# Altium footprint library 常用元件封装.PCBLIB: 164 footprints (part 8 of 11)
Each footprint in its own frame and in the unit in brackets; x right, y up, seen from the top. Pads: shape width x height; smd on the part's side, far side on the other; paste and mask are expansions set on the pad; w line width, h text height; cw(c..) or ccw(c..) is an arc to the next point about the centre after c.
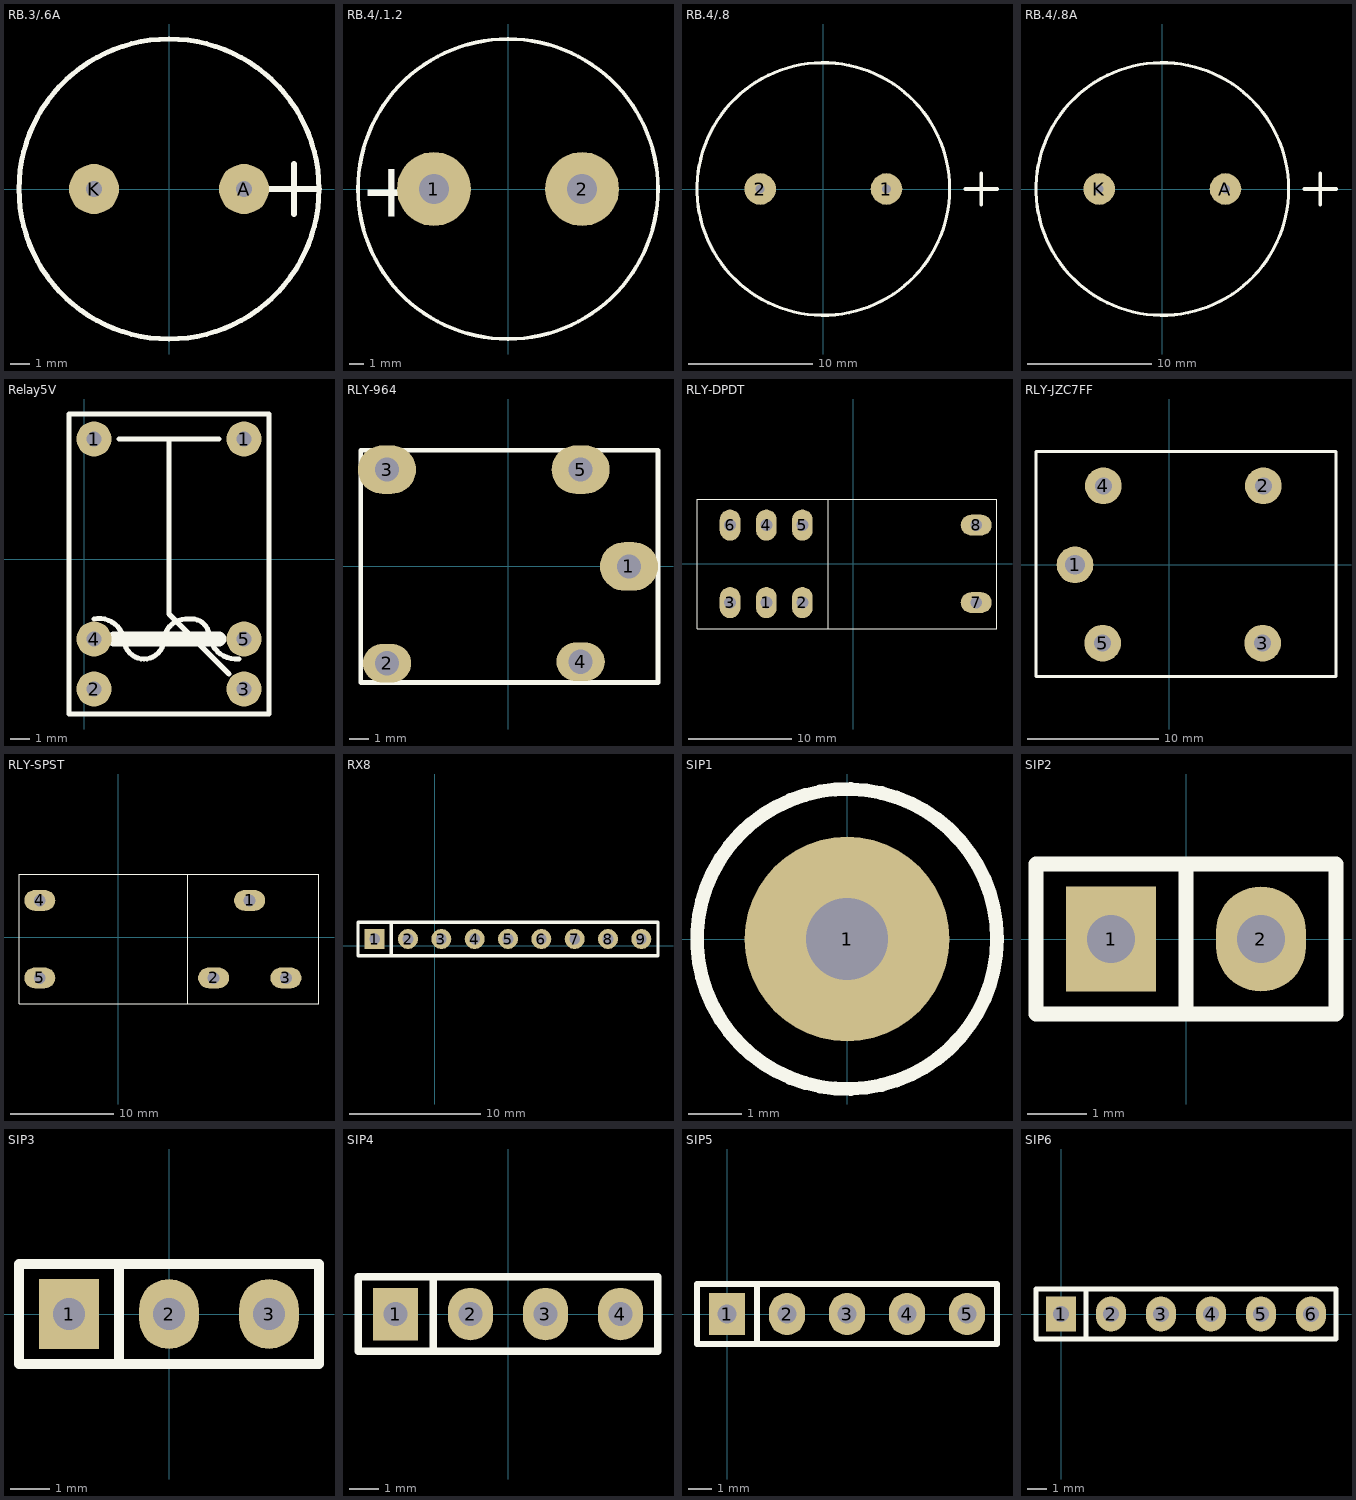
[diagram p7: the footprints below, top view; thin cyan lines are the x and y axes]

## RB.3/.6A [mil]
pads (2):
  round 100 hole 32: A(150,0) K(-150,0)
TopOverlay:
  circle w10: c0,0 r300
  lines w12: 200,0 300,0 ; 250,-50 250,50

## RB.4/.1.2 [mil]
pads (2):
  round 200 hole 80: 1(-200,0) 2(200,0)
TopOverlay:
  circle w10: c0,0 r405.25
  text "+" at -400,-75 h150

## RB.4/.8 [mil]
pads (2):
  round 100 hole 28: 1(200,0) 2(-200,0)
TopOverlay:
  circle w10: c0,0 r400
  lines w12: 450,0 550,0 ; 500,-50 500,50

## RB.4/.8A [mil]
pads (2):
  round 100 hole 28: A(200,0) K(-200,0)
TopOverlay:
  circle w10: c0,0 r400
  lines w12: 450,0 550,0 ; 500,-50 500,50

## Relay5V [mil]
pads (6):
  round 70 hole 30: 1(20,240) 1(320,240) 2(20,-260) 3(320,-260) 4(20,-160) 5(320,-160)
TopOverlay:
  lines w10: 20,-120 cw(c30,-170) 80,-160 ccw(c120,-160) 120,-200 ccw(c120,-160) 160,-160 cw(c205,-165) 210,-120 cw(c215,-155) 250,-150 ccw(c305,-145) 310,-200 ; 70,240 270,240 ; 170,240 170,-110 290,-230 ; -30,-310 370,-310 370,290 -30,290 -30,-310
  lines w30: 60,-160 270,-160

## RLY-964 [mil]
pads (5):
  oval 120x100 hole 50: 1(250,0) 3(-250,200) 5(150,200)
  oval 100x80 hole 50: 2(-250,-200) 4(150,-196.85)
TopOverlay:
  lines w10: -304.17,-240 310,-240 310,0 310,240 -304.17,240 -304.17,-240

## RLY-DPDT [mil]
pads (8):
  oval 79x118 hole 45: 1(-330.5,-147.5) 2(-193.5,-147.5) 3(-468.5,-147.5) 4(-330.5,147.5) 5(-193.5,147.5) 6(-468.5,147.5)
  oval 118x79 hole 45: 7(468.5,-147.5) 8(468.5,147.5)
TopOverlay:
  lines w4: -94.5,-246.5 -94.5,245.5 ; -594.5,-246.5 547.5,-246.5 547.5,245.5 -594.5,245.5 -594.5,-246.5

## RLY-JZC7FF [mm]
pads (5):
  round 2.8 hole 1.5: 1(-7.175,-0.025)
  round 2.8 hole 1.3: 2(7.175,5.994) 3(7.125,-5.994) 4(-5.016,5.994) 5(-5.067,-5.994)
TopOverlay:
  lines w0.254: -10.147,-8.534 -10.147,8.611 12.713,8.611 12.713,-8.534 -10.147,-8.534

## RLY-SPST [mil]
pads (5):
  oval 118x79 hole 45: 1(500,140) 2(363,-155) 3(638,-155) 4(-299,140) 5(-299,-155)
TopOverlay:
  lines w4: 264,-253 264,239 ; -378,-253 -378,239 764,239 764,-253 -378,-253

## RX8 [mil]
pads (9):
  rect 60x60 hole 32: 1(-180,20)
  round 60 hole 32: 2(-80,20) 3(20,20) 4(120,20) 5(220,20) 6(320,20) 7(420,20) 8(520,20) 9(620,20)
TopOverlay:
  lines w10: -130,-30 -130,70 ; -230,-30 -230,70 670,70 670,-30 -230,-30

## SIP1 [mil]
pads (1):
  round 150 hole 60: 1(0,0)
TopOverlay:
  circle w10: c0,0 r110

## SIP2 [mil]
pads (2):
  rect 60x70 hole 32: 1(-50,0)
  oval 60x70 hole 32: 2(50,0)
TopOverlay:
  lines w10: 0,-50 0,50 ; -100,-50 100,-50 100,50 -100,50 -100,-50

## SIP3 [mil]
pads (3):
  rect 60x70 hole 32: 1(-100,0)
  oval 60x70 hole 32: 2(0,0) 3(100,0)
TopOverlay:
  lines w10: -50,-50 -50,50 ; -150,-50 150,-50 150,50 -150,50 -150,-50

## SIP4 [mil]
pads (4):
  rect 60x70 hole 32: 1(-150,0)
  oval 60x70 hole 32: 2(-50,0) 3(50,0) 4(150,0)
TopOverlay:
  lines w10: -100,-50 -100,50 ; -200,-50 -200,50 200,50 200,-50 -200,-50

## SIP5 [mil]
pads (5):
  rect 60x70 hole 32: 1(0,0)
  oval 60x70 hole 32: 2(100,0) 3(200,0) 4(300,0) 5(400,0)
TopOverlay:
  lines w10: 50,-50 50,50 ; -50,-50 -50,50 450,50 450,-50 -50,-50

## SIP6 [mil]
pads (6):
  rect 60x70 hole 32: 1(0,0)
  oval 60x70 hole 32: 2(100,0) 3(200,0) 4(300,0) 5(400,0) 6(500,0)
TopOverlay:
  lines w10: 50,-50 50,50 ; -50,-50 -50,50 550,50 550,-50 -50,-50